# Altium schematic symbol library Terminal_Blocks_Spring Clamp_3.5mm.SchLib: 5 symbols
Pins are listed as number, name and electrical type; pins without a type are passive.

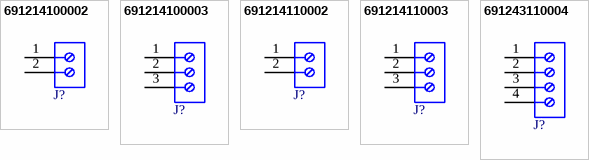
[diagram p0: symbols 691214100002 to 691243110004]

## 691214100002
designator J?, comment 10A, 300V  (value not drawn)
WR-TBL Series 2141 Vertical Entry Modular, THT, pitch 3.5mm, 2p; Manufacturer Part Number: 691214100002; Manufacturer: Wurth Elektronik; Modularity: Yes; ComponentLink1Description: Datasheet; ComponentLink1URL: https://www.we-online.com/redexpert/article/691214100002?ad; Category: Terminal Blocks; Match Code: WR-TBL; Mount: Through Hole; Operating Temperature Max: 120°C; Operating Temperature Min: -30°C; Packaging: Box; Application: Rising Cage Clamp; Number of Pins: 2; Number of Rows: 1; Orientation: Vertical; Pitch: 3.5mm; Rated Current: 10A; Working Voltage: 300V; Supplier 1 URL: N/A; Supplier 2 URL: N/A; Supplier 3 URL: https://www.thegioiic.com/kf350-2-r-domino-2-chan-cong-3-5mm-300v-10a-han-pcb; Value: 10A, 300V; LCSC Part #: N/A; Supplier 1: Mouser; Supplier 1 Part Number: N/A; Supplier 2: Digi-Key; Supplier 2 Part Number: N/A; Supplier 3: thegioiic; Supplier 3 Part Number: N/A
footprint 691214100002
pins: 1, 2

## 691214100003
designator J?, comment 10A, 300V  (value not drawn)
WR-TBL Series 2141 Vertical Entry Modular, THT, pitch 3.5mm, 3p; Manufacturer Part Number: 691214100003; Manufacturer: Wurth Elektronik; Modularity: Yes; ComponentLink1Description: Datasheet; ComponentLink1URL: https://www.we-online.com/redexpert/article/691214100003?ad; Category: Terminal Blocks; Match Code: WR-TBL; Mount: Through Hole; Operating Temperature Max: 120°C; Operating Temperature Min: -30°C; Packaging: Box; Application: Rising Cage Clamp; Number of Pins: 3; Number of Rows: 1; Orientation: Vertical; Pitch: 3.5mm; Rated Current: 10A; Working Voltage: 300V; Supplier 1 URL: N/A; Supplier 2 URL: N/A; Supplier 3 URL: https://www.thegioiic.com/kf350-3-r-domino-3-chan-cong-3-5mm-300v-10a-han-pcb; Value: 10A, 300V; LCSC Part #: N/A; Supplier 1: Mouser; Supplier 1 Part Number: N/A; Supplier 2: Digi-Key; Supplier 2 Part Number: N/A; Supplier 3: thegioiic; Supplier 3 Part Number: N/A
footprint 691214100003
pins: 1, 2, 3

## 691214110002
designator J?, comment 10A, 300V  (value not drawn)
WR-TBL Series 2141 Horizontal Entry Modular, THT, pitch 3.5mm, 2p; Manufacturer Part Number: 691214110002; Manufacturer: Wurth Elektronik; Modularity: Yes; ComponentLink1Description: Datasheet; ComponentLink1URL: https://www.we-online.com/redexpert/article/691214110002?ad; Category: Terminal Blocks; Match Code: WR-TBL; Mount: Through Hole; Operating Temperature Max: 105°C; Operating Temperature Min: -40°C; Packaging: Box; Application: Rising Cage Clamp; Number of Pins: 2; Number of Rows: 1; Orientation: Horizontal; Pitch: 3.5mm; Rated Current: 10A; Working Voltage: 300V; Supplier 1 URL: N/A; Supplier 2 URL: N/A; Supplier 3 URL: https://www.thegioiic.com/kf350-2-v-domino-2-chan-thang-3-5mm-300v-10a-han-pcb; Value: 10A, 300V; LCSC Part #: N/A; Supplier 1: Mouser; Supplier 1 Part Number: N/A; Supplier 2: Digi-Key; Supplier 2 Part Number: N/A; Supplier 3: thegioiic; Supplier 3 Part Number: N/A
footprint 691214110002
pins: 1, 2

## 691214110003
designator J?, comment 10A, 300V  (value not drawn)
WR-TBL Series 2141 Horizontal Entry Modular, THT, pitch 3.5mm, 3p; Manufacturer Part Number: 691214110003; Manufacturer: Wurth Elektronik; Modularity: Yes; ComponentLink1Description: Datasheet; ComponentLink1URL: https://www.we-online.com/redexpert/article/691214110003?ad; Category: Terminal Blocks; Match Code: WR-TBL; Mount: Through Hole; Operating Temperature Max: 105°C; Operating Temperature Min: -40°C; Packaging: Box; Application: Rising Cage Clamp; Number of Pins: 3; Number of Rows: 1; Orientation: Horizontal; Pitch: 3.5mm; Rated Current: 10A; Working Voltage: 300V; Supplier 1 URL: N/A; Supplier 2 URL: N/A; Supplier 3 URL: https://www.thegioiic.com/kf350-3-v-domino-3-chan-thang-3-5mm-300v-10a-han-pcb; Value: 10A, 300V; LCSC Part #: N/A; Supplier 1: Mouser; Supplier 1 Part Number: N/A; Supplier 2: Digi-Key; Supplier 2 Part Number: N/A; Supplier 3: thegioiic; Supplier 3 Part Number: N/A
footprint 691214110003
pins: 1, 2, 3

## 691243110004
designator J?, comment 10A, 300V  (value not drawn)
WR-TBL Series 2431 Horizontal Cable Entry, THT, pitch 3.5mm, 4p; Manufacturer Part Number: 691243110004; Manufacturer: Wurth Elektronik; Modularity: No; ComponentLink1Description: Datasheet; ComponentLink1URL: https://www.we-online.com/redexpert/article/691243110004?ad; Category: Terminal Blocks; Match Code: WR-TBL; Mount: Through Hole; Operating Temperature Max: 120°C; Operating Temperature Min: -30°C; Packaging: Box; Application: Rising Cage Clamp; Number of Pins: 4; Number of Rows: 1; Orientation: Horizontal; Pitch: 3.5mm; Rated Current: 10A; Working Voltage: 300V; Supplier 1 URL: N/A; Supplier 2 URL: N/A; Supplier 3 URL: https://www.thegioiic.com/kf350-4-v-domino-4-chan-thang-3-5mm-300v-10a-han-pcb; Value: 10A, 300V; LCSC Part #: N/A; Supplier 1: Mouser; Supplier 1 Part Number: N/A; Supplier 2: Digi-Key; Supplier 2 Part Number: N/A; Supplier 3: thegioiic; Supplier 3 Part Number: N/A
footprint 691243110004
pins: 1, 2, 3, 4